# Altium schematic symbol library WillsSchematicLibrary.SchLib: 23 symbols
Pins are listed as number, name and electrical type; pins without a type are passive.

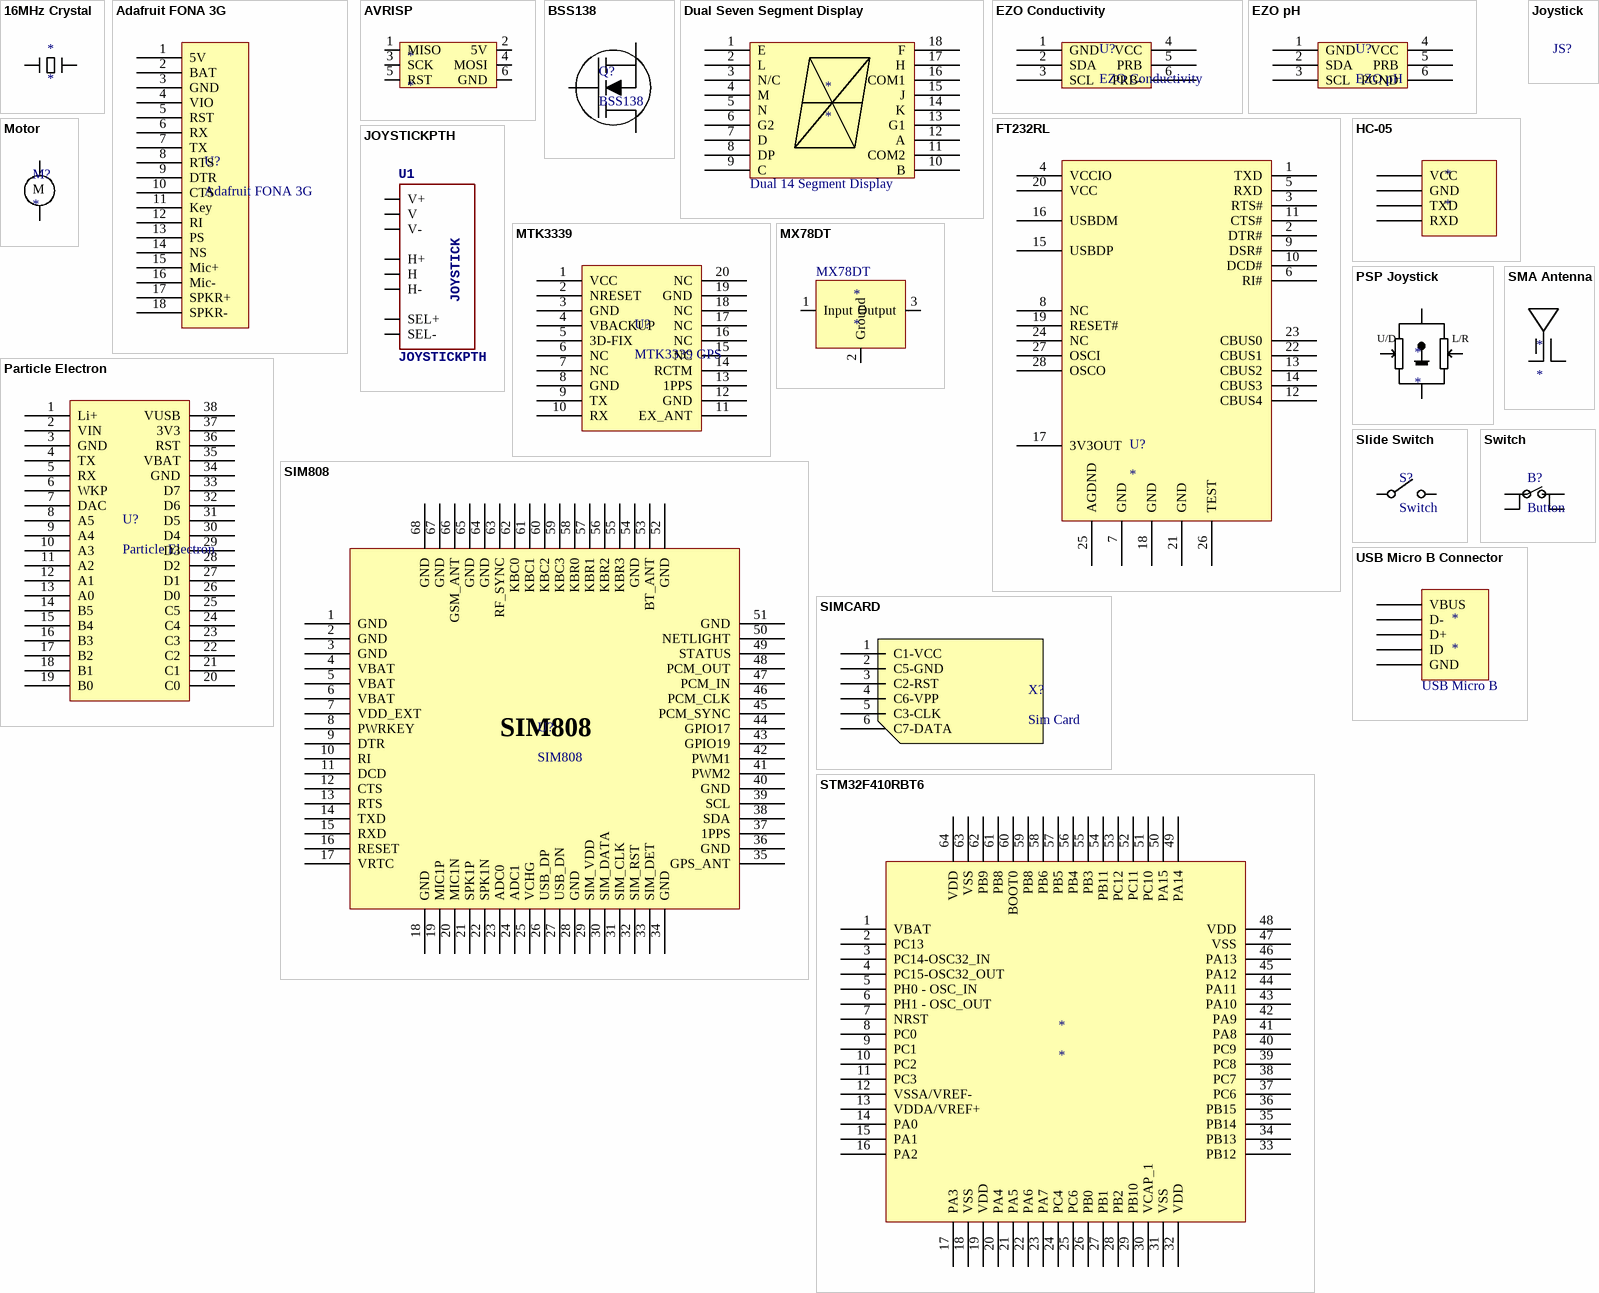
[diagram p0: symbols 16MHz Crystal to USB Micro B Connector]

## 16MHz Crystal
designator *
footprint 16MHz Crystal SMD
footprint 16MHz Clock
pins: 1, 2

## Adafruit FONA 3G
designator U?
pins: 1 5V, 2 BAT, 3 GND, 4 VIO, 5 RST, 6 RX, 7 TX, 8 RTS, 9 DTR, 10 CTS, 11 Key, 12 RI, 13 PS, 14 NS, 15 Mic+, 16 Mic-, 17 SPKR+, 18 SPKR-

## AVRISP
designator *
pins: 1 MISO, 2 5V, 3 SCK, 4 MOSI, 5 RST, 6 GND

## BSS138
designator Q?
footprint SOT95P245X110-3N (SOT23, 3-Leads, Body 2.90x2.45mm, Pitch 0.95mm, IPC Medium Density)
pins: 1 Gate, 2 Source, 3 Drain

## Dual Seven Segment Display
designator *
footprint Dual 14 Segment Display
pins: 1 E, 2 L, 3 N/C, 4 M, 5 N, 6 G2, 7 D, 8 DP, 9 C, 10 B, 11 COM2, 12 A, 13 G1, 14 K, 15 J, 16 COM1, 17 H, 18 F
text: Dual 14 Segment Display

## EZO Conductivity
designator U?
footprint EZO Conductivity
pins: 1 GND, 2 SDA, 3 SCL, 4 VCC, 5 PRB, 6 PRB-

## EZO pH
designator U?
footprint EZO pH
pins: 1 GND, 2 SDA, 3 SCL, 4 VCC, 5 PRB, 6 PGND

## FT232RL
designator U?
footprint FT232RL
pins: 1 TXD, 2 DTR#, 3 RTS#, 4 VCCIO, 5 RXD, 6 RI#, 7 GND, 8 NC, 9 DSR#, 10 DCD#, 11 CTS#, 12 CBUS4, 13 CBUS2, 14 CBUS3, 15 USBDP, 16 USBDM, 17 3V3OUT, 18 GND, 19 RESET#, 20 VCC, 21 GND, 22 CBUS1, 23 CBUS0, 24 NC, 25 AGDND, 26 TEST, 27 OSCI, 28 OSCO

## HC-05
designator *
pins: 1 VCC, 2 GND, 3 TXD, 4 RXD

## Joystick
designator JS?, comment 2-Axis Joystick  (value not drawn)

## JOYSTICKPTH
designator U1
Thumb JoystickJoystick commonly found in PS2 controllers. Two pots and a select switch. Adapted from Sparkfun Library (but for more common 6mm switch sticks); JOYSTICK: JOYSTICK
footprint JOYSTICK
footprint JOYSTICK
pins: B1A SEL+, B2A SEL-, H1 H+, H2 H, H3 H-, V1 V+, V2 V, V3 V-

## Motor
designator M?
footprint Model Name (Footprint not found)
pins: 1, 2
text: M

## MTK3339
designator U?, comment MTK3339 GPS
footprint MTK3339 (GPS Chip)
pins: 1 VCC, 2 NRESET, 3 GND, 4 VBACKUP, 5 3D-FIX, 6 NC, 7 NC, 8 GND, 9 TX, 10 RX, 11 EX_ANT, 12 GND, 13 1PPS, 14 RCTM, 15 NC, 16 NC, 17 NC, 18 NC, 19 GND, 20 NC

## MX78DT
designator *
footprint DPAK254P1420X457-3N (D2-PAK, 3-Pads, Body 7.77x8.48mm (max), IPC Medium Density)
pins: 1 Input, 2 Ground, 3 Output

## Particle Electron
designator U?
footprint Particle Electron (Particle Electron Footprint)
pins: 1 Li+, 2 VIN, 3 GND, 4 TX, 5 RX, 6 WKP, 7 DAC, 8 A5, 9 A4, 10 A3, 11 A2, 12 A1, 13 A0, 14 B5, 15 B4, 16 B3, 17 B2, 18 B1, 19 B0, 20 C0, 21 C1, 22 C2, 23 C3, 24 C4, 25 C5, 26 D0, 27 D1, 28 D2, 29 D3, 30 D4, 31 D5, 32 D6, 33 D7, 34 GND, 35 VBAT, 36 RST, 37 3V3, 38 VUSB

## PSP Joystick
designator *
footprint PSP Joystick; pin to pad 1>4 2>3 3>2 4>1
pins: 1 V IN, 2 U/D, 3 GND, 4 L/R

## SIM808
designator U?
footprint SIM808 (GSM+GPRS+GPS)
pins: 1 GND, 2 GND, 3 GND, 4 VBAT, 5 VBAT, 6 VBAT, 7 VDD_EXT, 8 PWRKEY, 9 DTR, 10 RI, 11 DCD, 12 CTS, 13 RTS, 14 TXD, 15 RXD, 16 RESET, 17 VRTC, 18 GND, 19 MIC1P, 20 MIC1N, 21 SPK1P, 22 SPK1N, 23 ADC0, 24 ADC1, 25 VCHG, 26 USB_DP, 27 USB_DN, 28 GND, 29 SIM_VDD, 30 SIM_DATA, 31 SIM_CLK, 32 SIM_RST, 33 SIM_DET, 34 GND, 35 GPS_ANT, 36 GND, 37 1PPS, 38 SDA, 39 SCL, 40 GND, 41 PWM2, 42 PWM1, 43 GPIO19, 44 GPIO17, 45 PCM_SYNC, 46 PCM_CLK, 47 PCM_IN, 48 PCM_OUT, 49 STATUS, 50 NETLIGHT, 51 GND, 52 GND, 53 BT_ANT, 54 GND, 55 KBR3, 56 KBR2, 57 KBR1, 58 KBR0, 59 KBC3, 60 KBC2, 61 KBC1, 62 KBC0, 63 RF_SYNC, 64 GND, 65 GND, 66 GSM_ANT, 67 GND, 68 GND

## SIMCARD
designator X?, comment Sim Card
footprint Sim Card
pins: 1 C1-VCC, 2 C5-GND, 3 C2-RST, 4 C6-VPP, 5 C3-CLK, 6 C7-DATA

## Slide Switch
designator S?, comment Switch
footprint Slide Switch 2.54mm
pins: 1, 2

## SMA Antenna
designator *
footprint SMA
pins: 1 Ant, 2 GND

## STM32F410RBT6
designator *
footprint STM32F410
pins: 1 VBAT, 2 PC13, 3 PC14-OSC32_IN, 4 PC15-OSC32_OUT, 5 PH0 - OSC_IN, 6 PH1 - OSC_OUT, 7 NRST, 8 PC0, 9 PC1, 10 PC2, 11 PC3, 12 VSSA/VREF-, 13 VDDA/VREF+, 14 PA0, 15 PA1, 16 PA2, 17 PA3, 18 VSS, 19 VDD, 20 PA4, 21 PA5, 22 PA6, 23 PA7, 24 PC4, 25 PC6, 26 PB0, 27 PB1, 28 PB2, 29 PB10, 30 VCAP_1, 31 VSS, 32 VDD, 33 PB12, 34 PB13, 35 PB14, 36 PB15, 37 PC6, 38 PC7, 39 PC8, 40 PC9, 41 PA8, 42 PA9, 43 PA10, 44 PA11, 45 PA12, 46 PA13, 47 VSS, 48 VDD, 49 PA14, 50 PA15, 51 PC10, 52 PC11, 53 PC12, 54 PB11, 55 PB3, 56 PB4, 57 PB5, 58 PB6, 59 PB8, 60 BOOT0, 61 PB8, 62 PB9, 63 VSS, 64 VDD

## Switch
designator B?, comment Button
footprint SMT Tactile Button
footprint Large Tactile Switch (Removable Covers)
footprint SPST-NO; pin to pad 2>4 4>2
pins: 1, 2, 3, 4

## USB Micro B Connector
designator *
footprint USB Micro B Connector
pins: D+, D-, GND, ID, VBUS
text: USB Micro B